# Altium schematic symbol library mpu9250.SchLib: 1 symbol
Pins are listed as number, name and electrical type; pins without a type are passive.

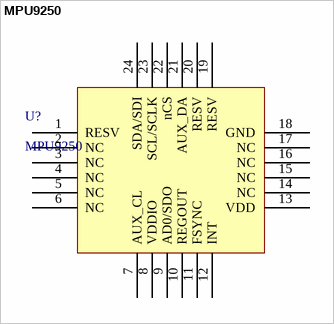
[diagram p0: symbol MPU9250]

## MPU9250
designator U?
footprint MPU9250
pins: 1 RESV, 2 NC, 3 NC, 4 NC, 5 NC, 6 NC, 7 AUX_CL, 8 VDDIO, 9 AD0/SDO, 10 REGOUT, 11 FSYNC, 12 INT, 13 VDD, 14 NC, 15 NC, 16 NC, 17 NC, 18 GND, 19 RESV, 20 RESV, 21 AUX_DA, 22 nCS, 23 SCL/SCLK, 24 SDA/SDI